# Altium schematic symbol library SnapEDAsch.SchLib: 1 symbol
Pins are listed as number, name and electrical type; pins without a type are passive.

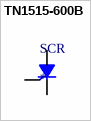
[diagram p0: symbol TN1515-600B]

## TN1515-600B
designator SCR
SCR 600V 15A RecuperaciÃ³n estÃ¡ndar Montaje en superficie DPAK; MF: STMicroelectronics; MP: TN1515-600B; SnapEDA_Link: https://www.snapeda.com/parts/TN1515-600B/STMicroelectronics/view-part/598292/?ref=snap; Value: *; Availability: Unavailable; Price: None; Package: DPAK STMicroelectronics
footprint DPAK
pins: 1 K, 3 G, 4 A